# EAGLE library part MA07 (library con-amp-quick)
AMP QUICK CONNECTOR
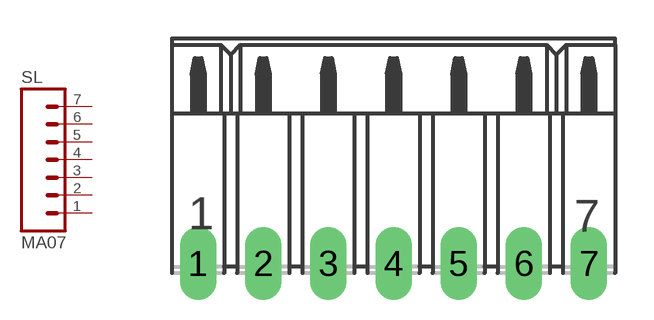
[diagram p9: symbol with the pads of 07PA; footprint 07PA]

Designator prefix SL

## MA07 (OC_FARNELL: unknown; OC_NEWARK: unknown)  [07PA]
1  1  pas
2  2  pas
3  3  pas
4  4  pas
5  5  pas
6  6  pas
7  7  pas

## Footprint 07PA (pad centres in mm)
AMP QUICK CONNECTOR
drill 0.914 long: 1 -7.62,0; 2 -5.08,0; 3 -2.54,0; 4 0,0; 5 2.54,0; 6 5.08,0; 7 7.62,0